# EAGLE library part D-SUB9F (library president_george)
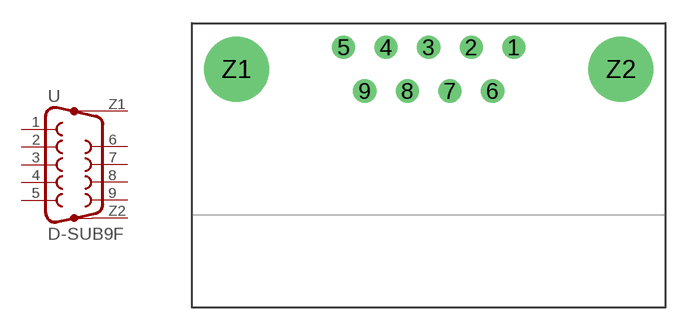
[diagram p3: symbol with the pads of D-SUB9F; footprint D-SUB9F]

Designator prefix -

## D-SUB9F  [D-SUB9F]
1  1  pas
2  2  pas
3  3  pas
4  4  pas
5  5  pas
6  6  pas
7  7  pas
8  8  pas
9  9  pas
Z1  G1  pas
Z2  G2  pas

## Footprint D-SUB9F (pad centres in mm)
drill 1: 1 5.54,6.5; 2 2.77,6.5; 3 0,6.5; 4 -2.77,6.5; 5 -5.54,6.5; 6 4.155,3.66; 7 1.385,3.66; 8 -1.385,3.66; 9 -4.155,3.66
drill 3.2: Z1 -12.5,5.08; Z2 12.5,5.08